# Altium footprint library alexsb.PCBLIB: 444 footprints (part 3 of 28)
Each footprint in its own frame and in the unit in brackets; x right, y up, seen from the top. Pads: shape width x height; smd on the part's side, far side on the other; paste and mask are expansions set on the pad; w line width, h text height; cw(c..) or ccw(c..) is an arc to the next point about the centre after c.
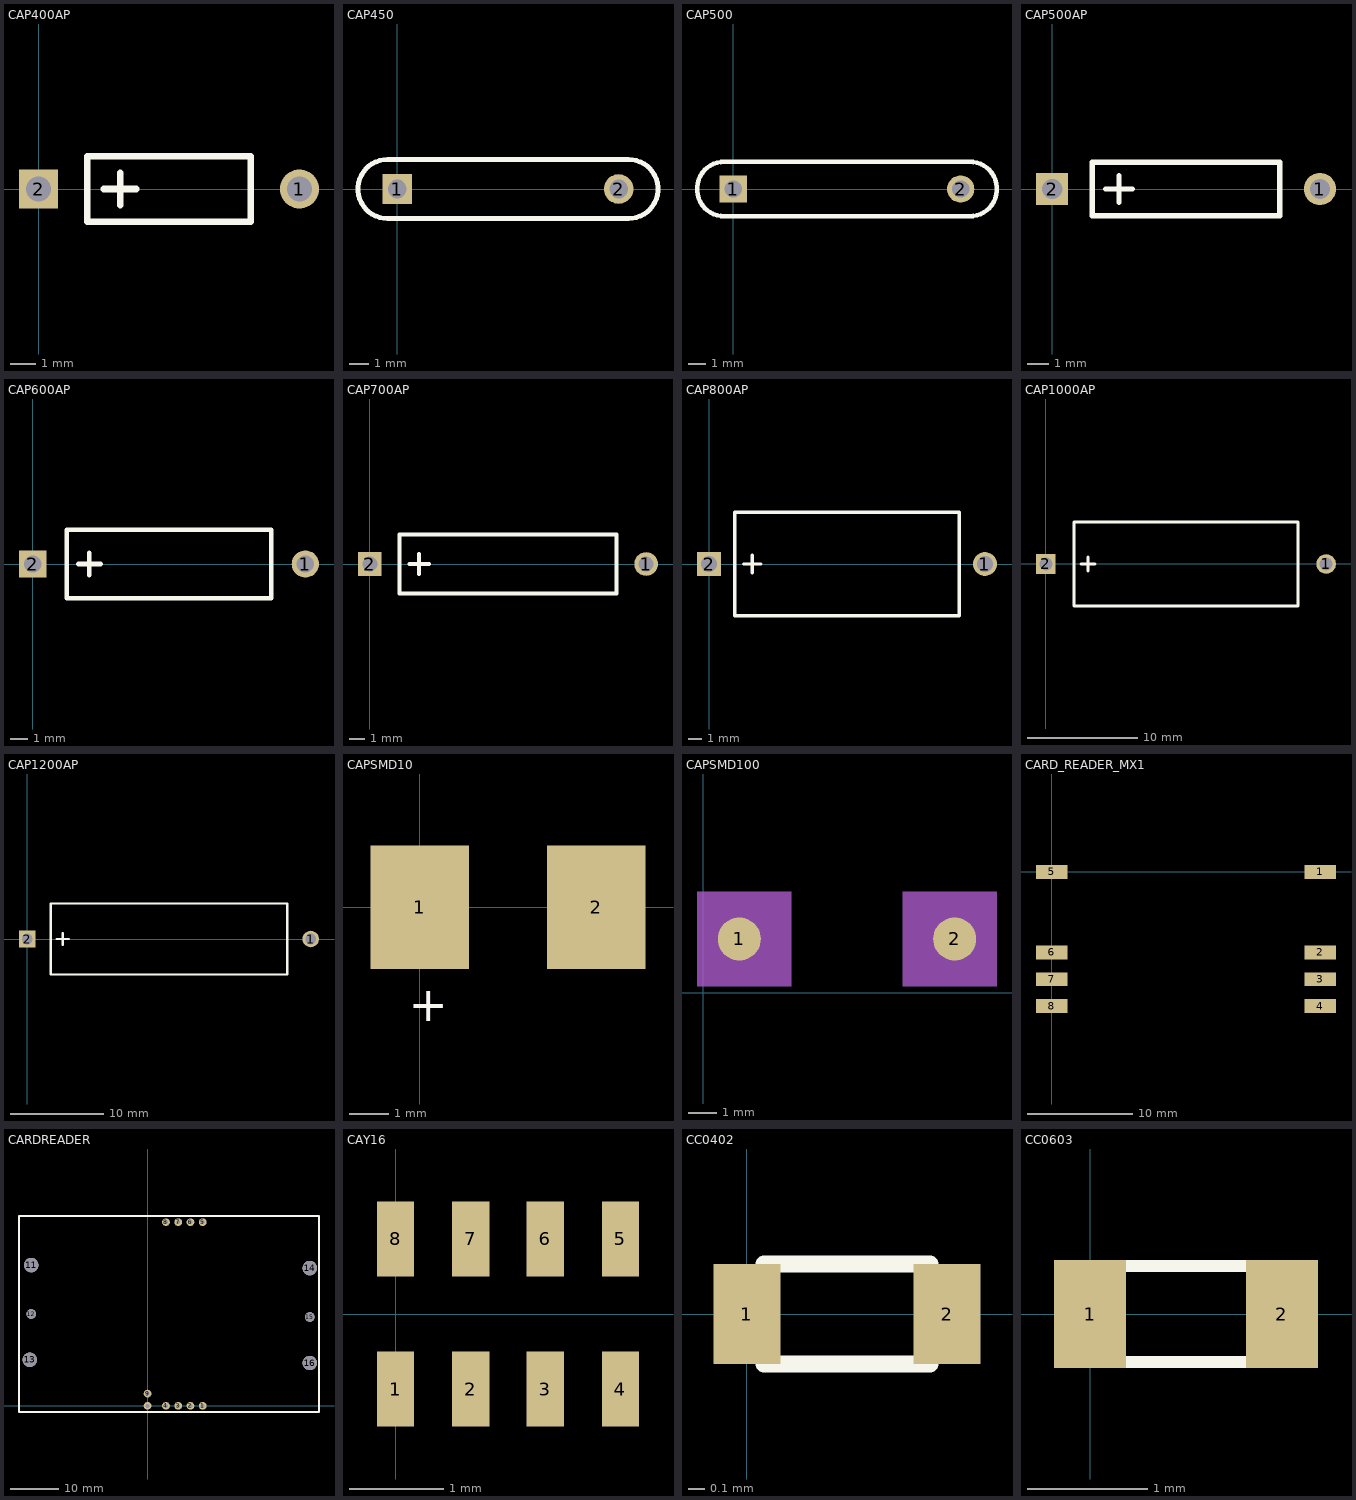
[diagram p2: the footprints below, top view; thin cyan lines are the x and y axes]

## CAP400AP [mil]
pads (2):
  round 60 hole 38: 1(400,0)
  rect 60x60 hole 38: 2(0,0)
Top Overlay:
  lines w10: 100,0 150,0 ; 125,-25 125,25 ; 75,-50 75,50 325,50 325,-50 75,-50

## CAP450 [mil]
pads (2):
  rect 60x60 hole 38: 1(0,0)
  round 60 hole 38: 2(450,0)
Top Overlay:
  lines w10: -20,-60 cw(c-20,0) -20,60 470,60 cw(c470,0) 470,-60 -20,-60

## CAP500 [mil]
pads (2):
  rect 60x60 hole 38: 1(0,0)
  round 60 hole 38: 2(500,0)
Top Overlay:
  lines w10: -20,-60 cw(c-20,0) -20,60 520,60 cw(c520,0) 520,-60 -20,-60

## CAP500AP [mil]
pads (2):
  round 60 hole 38: 1(500,0)
  rect 60x60 hole 38: 2(0,0)
Top Overlay:
  lines w10: 100,0 150,0 ; 125,-25 125,25 ; 75,-50 75,50 425,50 425,-50 75,-50

## CAP600AP [mil]
pads (2):
  round 60 hole 38: 1(600,0)
  rect 60x60 hole 38: 2(0,0)
Top Overlay:
  lines w10: 100,0 150,0 ; 125,-25 125,25 ; 75,-75 525,-75 525,75 75,75 75,-75

## CAP700AP [mil]
pads (2):
  round 60 hole 38: 1(700,0)
  rect 60x60 hole 38: 2(0,0)
Top Overlay:
  lines w10: 100,0 150,0 ; 125,-25 125,25 ; 75,-75 625,-75 625,75 75,75 75,-75

## CAP800AP [mil]
pads (2):
  round 70 hole 46: 1(800,0)
  rect 70x70 hole 46: 2(0,0)
Top Overlay:
  lines w10: 100,0 150,0 ; 125,-25 125,25 ; 75,-150 75,150 725,150 725,-150 75,-150

## CAP1000AP [mil]
pads (2):
  round 70 hole 46: 1(1000,0)
  rect 70x70 hole 46: 2(0,0)
Top Overlay:
  lines w10: 125,0 175,0 ; 150,-25 150,25 ; 100,-150 900,-150 900,150 100,150 100,-150

## CAP1200AP [mil]
pads (2):
  round 70 hole 46: 1(1200,0)
  rect 70x70 hole 46: 2(0,0)
Top Overlay:
  lines w10: 125,0 175,0 ; 150,-25 150,25 ; 100,-150 100,150 1100,150 1100,-150 100,-150

## CAPSMD10 [mm]
pads (2):
  rect 2.5x3.15 smd: 1(0,0) 2(4.5,0)
Top Overlay:
  text "+" at -0.284,-3.2 h1.5

## CAPSMD100 [mil]
pads (2):
  round 60 all layers, no hole: 1(50,75) 2(350,75)
Bottom Overlay:
  lines w1: 56,-14 56,164 344,164 344,-14 56,-14
  lines w3: 65,10 95,10 ; 305,10 335,10 ; 320,-5 320,25
Mechanical 16:
  region: 290,129 290,21 397,21 397,129
  region: 110,21 110,129 3,129 3,21
  region: 409,141 278,141 278,9 409,9
  region: -9,9 122,9 122,141 -9,141

## CARD_READER_MX1 [mm]
pads (8):
  rect 3x1.3 smd: 1(25.4,0) 2(25.4,-7.62) 3(25.4,-10.16) 4(25.4,-12.7) 5(0,0) 6(0,-7.62) 7(0,-10.16) 8(0,-12.7)

## CARDREADER [mm]
pads (16):
  round 1.6 hole 0.8: 1(11.43,0) 2(8.89,0) 3(6.35,0) 4(3.81,0) 5(11.43,38.1) 6(8.89,38.1) 7(6.35,38.1) 8(3.81,38.1) 9(0,2.54) 10(0,0)
  round 3 hole 3: 11(-24.13,29.21) 13(-24.44,9.53) 14(33.645,28.585) 16(33.665,8.885)
  round 2 hole 2: 12(-24.13,19.05) 15(33.645,18.425)
Top Overlay:
  lines w0.5: -26.67,-1.27 34.29,-1.27 35.56,-1.27 35.56,39.37 -26.67,39.37 -26.67,-1.27

## CAY16 [mm]
pads (8):
  rect 0.4x0.8 smd: 1(0,-0.8) 2(0.8,-0.8) 3(1.6,-0.8) 4(2.4,-0.8) 5(2.4,0.8) 6(1.6,0.8) 7(0.8,0.8) 8(0,0.8)

## CC0402 [mm]
pads (2):
  rect 0.4x0.6 smd: 1(0,0) 2(1.2,0)
Top Overlay:
  lines w0.1: 0.1,-0.3 0.1,0.3 1.1,0.3 1.1,-0.3 0.1,-0.3

## CC0603 [mm]
pads (2):
  rect 0.6x0.9 smd: 1(0,0) 2(1.6,0)
Top Overlay:
  lines w0.1: 0,-0.4 0,0.4 1.6,0.4 1.6,-0.4 0,-0.4